# Altium footprint library KelvinVoltageMeasureModule.PcbLib: 35 footprints (part 2 of 3)
Each footprint in its own frame and in the unit in brackets; x right, y up, seen from the top. Pads: shape width x height; smd on the part's side, far side on the other; paste and mask are expansions set on the pad; w line width, h text height; cw(c..) or ccw(c..) is an arc to the next point about the centre after c.
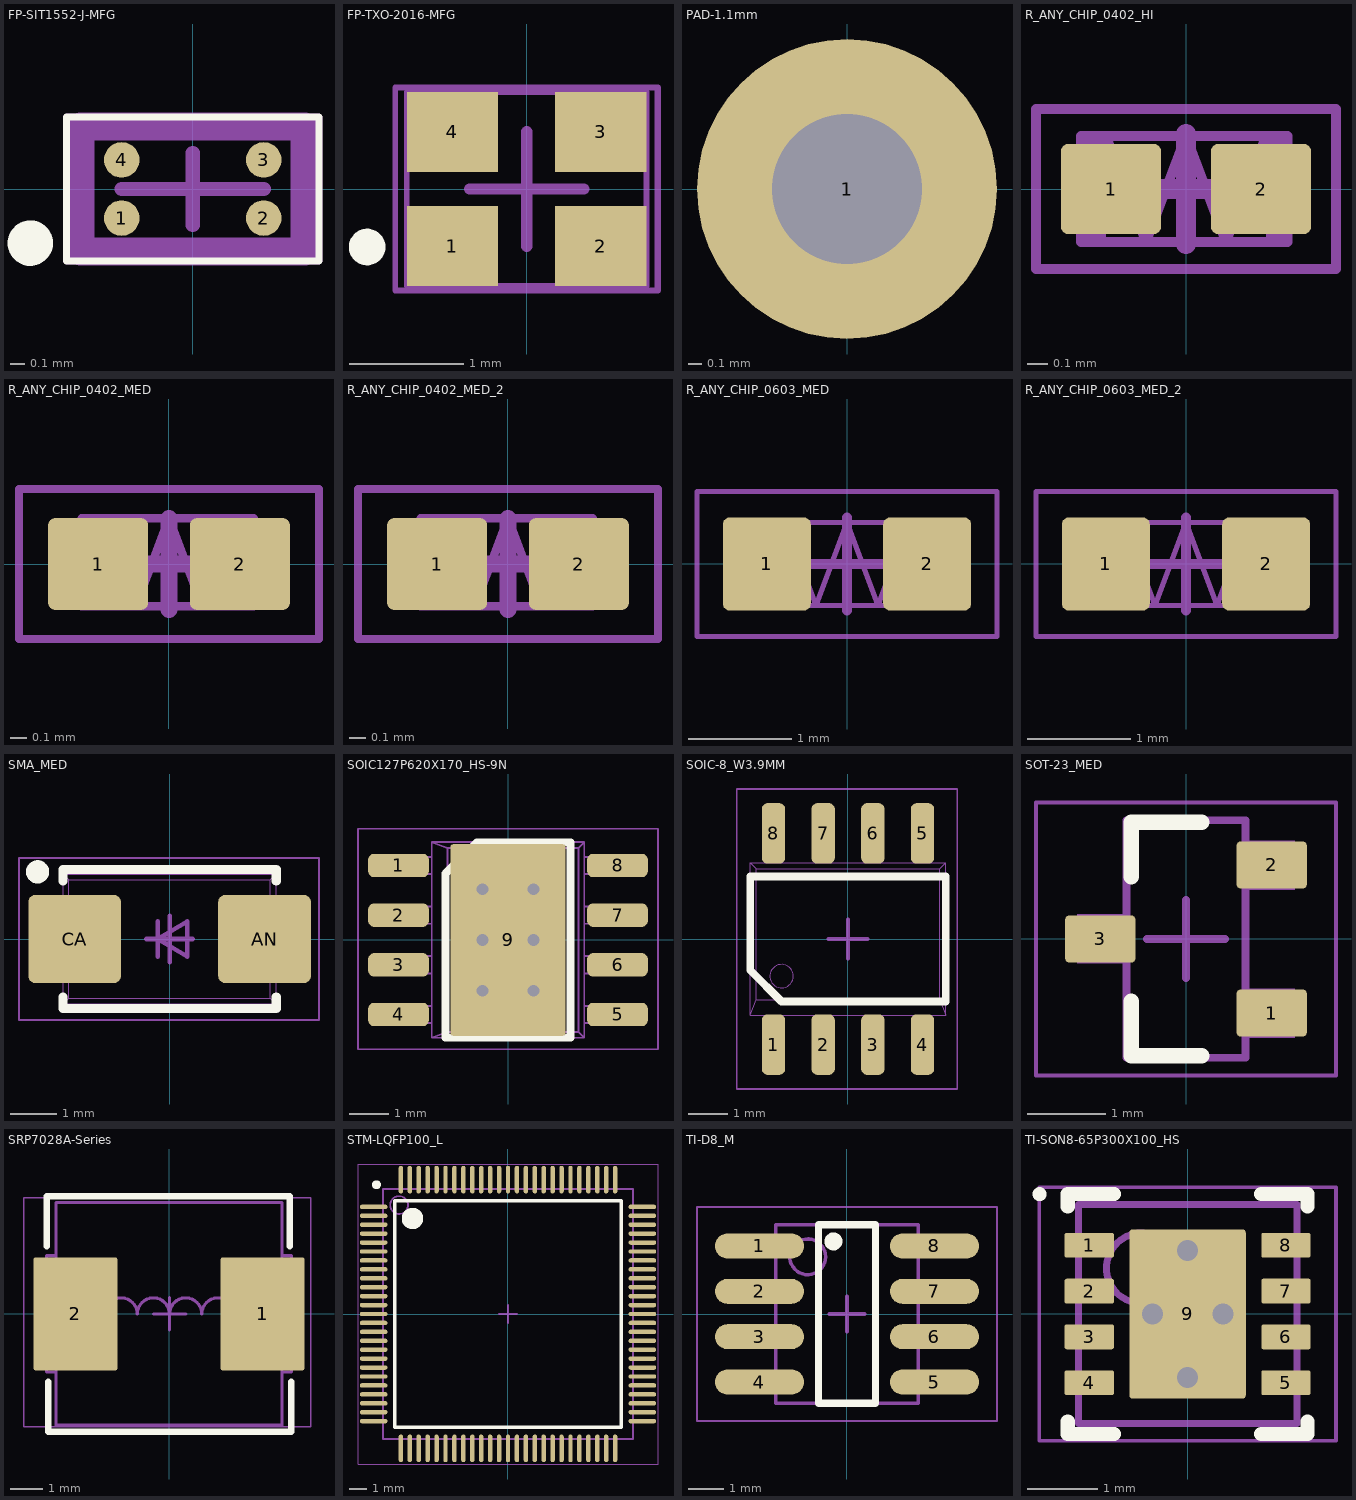
[diagram p1: the footprints below, top view; thin cyan lines are the x and y axes]

## FP-SIT1552-J-MFG [mm]
pads (4):
  round 0.25 smd paste+0 mask-1000: 1(-0.5,-0.205) 2(0.5,-0.205) 3(0.5,0.205) 4(-0.5,0.205)
Top Overlay:
  circle w0.16: c-1.143,-0.381 r0.08
  lines w0.05: -0.889,-0.508 0.889,-0.508 0.889,0.508 -0.889,0.508 -0.889,-0.508
Top Solder:
  circle w0.175: c-0.5,-0.205 r0.088
  circle w0.175: c0.5,-0.205 r0.088
  circle w0.175: c-0.5,0.205 r0.088
  circle w0.175: c0.5,0.205 r0.088
Top 3D Body:
  lines w0.2: -0.79,-0.44 0.79,-0.44 0.79,0.44 -0.79,0.44 -0.79,-0.44
Top Courtyard:
  lines w0.05: -0.889,-0.508 -0.889,0.508 0.889,0.508 0.889,-0.508 -0.889,-0.508
Top Assembly:
  lines w0.05: -0.889,-0.508 -0.889,0.508 0.889,0.508 0.889,-0.508 -0.889,-0.508
  text ".Designator" at 0,0.188 h1
Top Component Center:
  lines w0.1: -0.5,0 0.5,0 ; 0,-0.254 0,0.254
3D body "Crys_SiTime_SIT1552AI-JE-DCC-32_768S_eec.STEP": height 0.25, standoff 0, extent -1.29,-0.94 1.29,0.94

## FP-TXO-2016-MFG [mm]
pads (4):
  rect 0.8x0.7 smd paste+0 mask+0: 1(-0.65,-0.5) 2(0.65,-0.5) 3(0.65,0.5) 4(-0.65,0.5)
Top Overlay:
  circle w0.16: c-1.397,-0.508 r0.08
Top 3D Body:
  lines w0.05: -1.05,-0.85 -1.05,0.85 1.05,0.85 1.05,-0.85 -1.05,-0.85
Top Courtyard:
  lines w0.05: -1.15,-0.889 -1.15,0.889 1.15,0.889 1.15,-0.889 -1.15,-0.889
Top Assembly:
  lines w0.05: -1.15,-0.889 -1.15,0.889 1.143,0.889 1.143,-0.889 -1.15,-0.889
  text ".Designator" at 0,0.188 h1
Top Component Center:
  lines w0.1: -0.5,0 0.5,0 ; 0,-0.5 0,0.5
3D body "Crys_ECS_ECS-TXO-2016-33-160-TR_eec.STEP": height 0.25, standoff 0, extent -1.15,-0.889 1.15,1.011

## PAD-1.1mm [mm]
pads (1):
  round 2.2 hole 1.1: 1(0,0)
Top Designator:
  text ".Designator" at -1.6,1.9 h0.5
Top Assembly:
  circle w0.1: c0,0 r0.8
  lines w0.1: -0.8,0 0.8,0 ; 0,-0.8 0,0.8
Top Value:
  text ".Comment" at -1.562,1.3 h0.5

## R_ANY_CHIP_0402_HI [mm]
pads (2):
  rrect15% 0.5x0.45 smd mask+0.05: 1(-0.375,0) 2(0.375,0)
Top Courtyard:
  lines w0.05: -0.75,-0.4 -0.75,0.4 0.75,0.4 0.75,-0.4 -0.75,-0.4
  lines w0.1: -0.275,0 0.275,0 ; 0,-0.275 0,0.275
Top Designator:
  text ".Designator" at -1.9,1.35 h0.5
Top Assembly:
  region: 0.525,0.265 0.4,0.265 0.4,-0.265 0.525,-0.265
  rectangle: -0.525,-0.265 -0.4,0.265
  lines w0.05: -0.4,0.265 -0.2,-0.265 0,0.265 0.2,-0.265 0.4,0.265 ; -0.525,-0.265 0.508,-0.265 0.508,0.265 -0.525,0.265 -0.525,-0.265
Top Value:
  text ".Comment" at -1.9,0.7 h0.5
3D body "RC0402.STEP": height 0.4, standoff 0, extent -0.525,-0.275 0.525,0.275

## R_ANY_CHIP_0402_MED [mm]
pads (2):
  rrect15% 0.6x0.55 smd mask+0.05: 1(-0.425,0) 2(0.425,0)
Top Courtyard:
  lines w0.05: -0.9,-0.45 -0.9,0.45 0.9,0.45 0.9,-0.45 -0.9,-0.45
  lines w0.1: -0.275,0 0.275,0 ; 0,-0.275 0,0.275
Top Designator:
  text ".Designator" at -1.85,1.25 h0.5
Top Assembly:
  region: 0.525,0.275 0.4,0.275 0.4,-0.254 0.525,-0.254
  rectangle: -0.525,-0.254 -0.4,0.275
  lines w0.05: -0.4,0.275 -0.2,-0.254 0,0.275 0.2,-0.254 0.4,0.275 ; -0.525,-0.254 0.508,-0.254 0.508,0.275 -0.525,0.275 -0.525,-0.254
Top Value:
  text ".Comment" at -1.85,0.65 h0.5
3D body "RC0402.STEP": height 0.4, standoff 0, extent -0.525,-0.275 0.525,0.275

## R_ANY_CHIP_0402_MED_2 [mm]
pads (2):
  rrect15% 0.6x0.55 smd mask+0.05: 1(-0.425,0) 2(0.425,0)
Top Courtyard:
  lines w0.05: -0.9,-0.45 -0.9,0.45 0.9,0.45 0.9,-0.45 -0.9,-0.45
  lines w0.1: -0.275,0 0.275,0 ; 0,-0.275 0,0.275
Top Designator:
  text ".Designator" at -1.85,1.25 h0.5
Top Assembly:
  region: 0.525,0.275 0.4,0.275 0.4,-0.254 0.525,-0.254
  rectangle: -0.525,-0.254 -0.4,0.275
  lines w0.05: -0.4,0.275 -0.2,-0.254 0,0.275 0.2,-0.254 0.4,0.275 ; -0.525,-0.254 0.508,-0.254 0.508,0.275 -0.525,0.275 -0.525,-0.254
Top Value:
  text ".Comment" at -1.85,0.65 h0.5
3D body "RC0402.STEP": height 0.4, standoff 0, extent -0.525,-0.275 0.525,0.275

## R_ANY_CHIP_0603_MED [mm]
pads (2):
  rrect15% 0.85x0.9 smd mask+0.05: 1(-0.775,0) 2(0.775,0)
Top Courtyard:
  lines w0.05: -1.45,-0.7 -1.45,0.7 1.45,0.7 1.45,-0.7 -1.45,-0.7
  lines w0.1: -0.45,0 0.45,0 ; 0,-0.45 0,0.45
Top Designator:
  text ".Designator" at -1.8,1.55 h0.5
Top Assembly:
  rectangle: -0.925,-0.4 -0.7,0.4
  region: 0.925,0.4 0.7,0.4 0.7,-0.4 0.925,-0.4
  lines w0.05: -0.6,0.4 -0.3,-0.4 0,0.4 0.3,-0.4 0.6,0.4 ; -0.9,-0.4 -0.9,0.4 0.9,0.4 0.9,-0.4 -0.9,-0.4
Top Value:
  text ".Comment" at -1.8,0.95 h0.5
3D body "RC0603.STEP": height 0.55, standoff 0, extent -0.85,-0.45 0.85,0.45

## R_ANY_CHIP_0603_MED_2 [mm]
pads (2):
  rrect15% 0.85x0.9 smd mask+0.05: 1(-0.775,0) 2(0.775,0)
Top Courtyard:
  lines w0.05: -1.45,-0.7 -1.45,0.7 1.45,0.7 1.45,-0.7 -1.45,-0.7
  lines w0.1: -0.45,0 0.45,0 ; 0,-0.45 0,0.45
Top Designator:
  text ".Designator" at -1.8,1.55 h0.5
Top Assembly:
  rectangle: -0.925,-0.4 -0.7,0.4
  region: 0.925,0.4 0.7,0.4 0.7,-0.4 0.925,-0.4
  lines w0.05: -0.6,0.4 -0.3,-0.4 0,0.4 0.3,-0.4 0.6,0.4 ; -0.9,-0.4 -0.9,0.4 0.9,0.4 0.9,-0.4 -0.9,-0.4
Top Value:
  text ".Comment" at -1.8,0.95 h0.5
3D body "RC0603.STEP": height 0.55, standoff 0, extent -0.85,-0.45 0.85,0.45

## SMA_MED [mm]
pads (2):
  rrect15% 2x1.9 smd mask+0.05: AN(2.05,0) CA(-2.05,0)
Top Overlay:
  circle w0.25: c-2.85,1.45 r0.125
  lines w0.2: -2.3,-1.25 -2.3,-1.5 2.3,-1.5 2.3,-1.25 ; -2.3,1.25 -2.3,1.5 2.3,1.5 2.3,1.25
Top Courtyard:
  lines w0.05: -3.25,-1.75 3.225,-1.75 3.225,1.75 -3.25,1.75 -3.25,-1.75
  lines w0.1: -0.5,0 0.5,0 ; 0,-0.5 0,0.5
Top Designator:
  text ".Designator" at -2,2.6 h0.5
Top Assembly:
  region: -1.75,0.9 -1.75,-0.9 -1.45,-0.9 -1.45,0.9
  lines w0.01: -2.3,-0.75 -2.65,-0.75 -2.65,0.75 -2.3,0.75 ; 2.3,-0.75 2.65,-0.75 2.65,0.75 2.3,0.75 ; -2.3,-1.4 -2.175,-1.275 ; -2.3,-1.4 2.3,-1.4 ; -2.3,-1.4 -2.3,1.4 ; -2.3,1.4 -2.175,1.275 ; -2.3,1.4 2.3,1.4 ; -2.175,-1.275 -2.175,1.275 ; -2.175,-1.275 2.175,-1.275 ; -2.175,1.275 2.175,1.275 ; 2.175,-1.275 2.175,1.275 ; 2.175,-1.275 2.3,-1.4 ; 2.175,1.275 2.3,1.4 ; 2.3,-1.4 2.3,1.4
  lines w0.1: -0.254,-0.381 -0.254,0.381 ; -0.254,0 0.381,-0.381 0.381,0.381 -0.254,0
Top Value:
  text ".Comment" at -2,1.975 h0.5
3D body "SK56A-LTP_MED.step": height 2.44, standoff 0, extent -2.52,-1.46 2.52,1.46

## SOIC127P620X170_HS-9N [mm]
pads (9):
  rrect50% 1.55x0.6 smd mask+0.05: 1(-2.8,1.905) 2(-2.8,0.635) 3(-2.8,-0.635) 4(-2.8,-1.905) 5(2.8,-1.905) 6(2.8,-0.635) 7(2.8,0.635) 8(2.8,1.905)
  rrect5% 2.95x4.9 smd paste-1.9 mask-1.9: 9(0,0)
via -0.65,1.3 diameter 0.6 hole 0.3
via 0.65,1.3 diameter 0.6 hole 0.3
via -0.65,-1.3 diameter 0.6 hole 0.3
via 0.65,-1.3 diameter 0.6 hole 0.3
via -0.65,0 diameter 0.6 hole 0.3
via 0.65,0 diameter 0.6 hole 0.3
Top Overlay:
  lines w0.2: -1.6,-2.5 1.6,-2.5 1.6,2.5 -0.8,2.5 -1.6,1.7 -1.6,-2.5
Top Paste:
  rectangle: -1.2,-1.55 1.2,1.55
Top Solder:
  rectangle: -1.2,-1.55 1.2,1.55
Top Courtyard:
  lines w0.05: -3.835,-2.794 -3.835,2.845 3.835,2.845 3.835,-2.794 -3.835,-2.794
  lines w0.1: -0.5,0 0.5,0 ; 0,-0.5 0,0.5
Top Designator:
  text ".Designator" at -2.177,3.698 h0.5
Top Assembly:
  circle w0.05: c-0.95,1.7 r0.3
  lines w0.05: -2.46,-2.125 -2.46,-1.685 ; -2.46,-0.855 -2.46,-0.415 ; -2.46,0.415 -2.46,0.855 ; -2.46,1.685 -2.46,2.125 ; -1.95,-2.125 -3.05,-2.125 -3.05,-1.685 -1.95,-1.685 ; -1.95,-0.855 -3.05,-0.855 -3.05,-0.415 -1.95,-0.415 ; -1.95,0.415 -3.05,0.415 -3.05,0.855 -1.95,0.855 ; -1.95,1.685 -3.05,1.685 -3.05,2.125 -1.95,2.125 ; 1.95,-2.125 3.05,-2.125 3.05,-1.685 1.95,-1.685 ; 1.95,-0.855 3.05,-0.855 3.05,-0.415 1.95,-0.415 ; 1.95,0.415 3.05,0.415 3.05,0.855 1.95,0.855 ; 1.95,1.685 3.05,1.685 3.05,2.125 1.95,2.125 ; 2.46,-2.125 2.46,-1.685 ; 2.46,-0.855 2.46,-0.415 ; 2.46,0.415 2.46,0.855 ; 2.46,1.685 2.46,2.125 ; -1.95,-2.5 -1.55,-2.35 ; -1.95,-2.5 -1.95,2.5 ; -1.95,-2.5 1.95,-2.5 ; -1.95,2.5 -1.55,2.35 ; -1.95,2.5 1.95,2.5 ; -1.55,-2.35 -1.55,2.35 ; -1.55,-2.35 1.8,-2.35 ; -1.55,2.35 1.8,2.35 ; 1.8,-2.35 1.95,-2.5 ; 1.8,-2.35 1.8,2.35 ; 1.8,2.35 1.95,2.5 ; 1.95,-2.5 1.95,2.5
Top Value:
  text ".Comment" at -2.206,3.075 h0.5
3D body "SOIC127P620X170_HS-9N.step": height 1.7, standoff 0, extent -3.1,-2.5 3.1,2.5

## SOIC-8_W3.9MM [mm]
pads (8):
  rrect50% 0.6x1.55 smd mask+0.05: 1(-1.905,-2.7) 2(-0.635,-2.7) 3(0.635,-2.7) 4(1.905,-2.7) 5(1.905,2.7) 6(0.635,2.7) 7(-0.635,2.7) 8(-1.905,2.7)
Top Overlay:
  lines w0.2: -2.5,-0.8 -2.5,1.6 2.5,1.6 2.5,-1.6 -1.7,-1.6 -2.5,-0.8
Top Courtyard:
  lines w0.05: -2.845,-3.835 2.794,-3.835 2.794,3.835 -2.845,3.835 -2.845,-3.835
  lines w0.1: -0.5,0 0.5,0 ; 0,-0.5 0,0.5
Top Designator:
  text ".Designator" at -1.626,4.75 h0.5
Top Assembly:
  circle w0.025: c-1.7,-0.95 r0.3
  lines w0.025: -2.125,-2.46 -1.685,-2.46 ; -2.125,-1.95 -2.125,-3.05 -1.685,-3.05 -1.685,-1.95 ; -2.125,1.95 -2.125,3.05 -1.685,3.05 -1.685,1.95 ; -2.125,2.46 -1.685,2.46 ; -0.855,-2.46 -0.415,-2.46 ; -0.855,-1.95 -0.855,-3.05 -0.415,-3.05 -0.415,-1.95 ; -0.855,1.95 -0.855,3.05 -0.415,3.05 -0.415,1.95 ; -0.855,2.46 -0.415,2.46 ; 0.415,-2.46 0.855,-2.46 ; 0.415,-1.95 0.415,-3.05 0.855,-3.05 0.855,-1.95 ; 0.415,1.95 0.415,3.05 0.855,3.05 0.855,1.95 ; 0.415,2.46 0.855,2.46 ; 1.685,-2.46 2.125,-2.46 ; 1.685,-1.95 1.685,-3.05 2.125,-3.05 2.125,-1.95 ; 1.685,1.95 1.685,3.05 2.125,3.05 2.125,1.95 ; 1.685,2.46 2.125,2.46 ; -2.5,-1.95 2.5,-1.95 ; -2.5,-1.95 -2.5,1.95 ; -2.5,-1.95 -2.35,-1.55 ; -2.5,1.95 2.5,1.95 ; -2.5,1.95 -2.35,1.8 ; -2.35,-1.55 2.35,-1.55 ; -2.35,-1.55 -2.35,1.8 ; -2.35,1.8 2.35,1.8 ; 2.35,-1.55 2.35,1.8 ; 2.35,-1.55 2.5,-1.95 ; 2.35,1.8 2.5,1.95 ; 2.5,-1.95 2.5,1.95
Top Value:
  text ".Comment" at -1.651,4.064 h0.5
3D body "SOIC-8_127P600X175-8N.step": height 1.75, standoff 0, extent -2.5,-3 2.5,3

## SOT-23_MED [mm]
pads (3):
  rrect15% 0.9x0.6 smd mask+0.05: 1(1.1,-0.95) 2(1.1,0.95) 3(-1.1,0)
Top Overlay:
  lines w0.2: -0.7,-0.8 -0.7,-1.5 0.2,-1.5 ; -0.7,0.8 -0.7,1.5 0.2,1.5
Top Courtyard:
  lines w0.05: -1.925,-1.75 -1.925,1.75 1.925,1.75 1.925,-1.75 -1.925,-1.75
  lines w0.1: -0.5,0 0.5,0 ; 0,-0.5 0,0.5
Top Designator:
  text ".Designator" at -2.1,2.875 h0.5
Top Assembly:
  rectangle: -1.397,-0.315 -0.762,0.32
  region: 1.397,1.265 0.762,1.265 0.762,0.63 1.397,0.63
  region: 1.397,-0.635 0.762,-0.635 0.762,-1.27 1.397,-1.27
  lines w0.1: -0.762,-1.524 0.762,-1.524 0.762,1.524 -0.762,1.524 -0.762,-1.524
Top Value:
  text ".Comment" at -2.075,2.175 h0.5
3D body "SOT-2395P230X110-3N.step": height 1.1, standoff 0, extent -1.25,-1.5 1.25,1.5

## SRP7028A-Series [mm]
pads (2):
  rrect5% 2.6x3.5 smd: 1(2.9,0) 2(-2.9,0)
Top Overlay:
  lines w0.2: -3.787,2.1 -3.787,3.65 3.75,3.65 3.75,2.1 ; -3.742,-2.106 -3.742,-3.656 3.795,-3.656 3.795,-2.106
Top Courtyard:
  lines w0.05: -4.5,-3.5 -4.5,3.6 4.4,3.6 4.4,-3.5 -4.5,-3.5
  lines w0.1: -0.484,-0.001 0.516,-0.001 ; 0.016,-0.501 0.016,0.499
Top Designator:
  text ".Designator" at -1.7,4.5 h0.5
Top Assembly:
  lines w0.1: -3.5,-1.8 -3.8,-1.8 -3.8,1.8 -3.5,1.8 ; -2.984,-0.001 -1.984,-0.001 cw(c-1.484,-0.001) -0.984,-0.001 cw(c-0.484,-0.001) 0.016,-0.001 cw(c0.516,-0.001) 1.016,-0.001 cw(c1.516,-0.001) 2.016,-0.001 3.016,-0.001 ; 3.5,-1.8 3.8,-1.8 3.8,1.8 3.5,1.8 ; -3.5,-3.45 -3.5,3.45 3.5,3.45 3.5,-3.45 -3.5,-3.45
Top Value:
  text ".Comment" at -1.6,3.8 h0.5
3D body: height 1.8, standoff 0, extent 1.95,-1.525 3.8,1.525
3D body: height 1.8, standoff 0, extent -3.8,-1.525 -1.95,1.525
3D body: height 3, standoff 0, extent -3.5,-3.45 3.5,3.45

## STM-LQFP100_L [mm]
pads (100):
  oval 1.55x0.25 smd: 1(-7.525,6) 2(-7.525,5.5) 3(-7.525,5) 4(-7.525,4.5) 5(-7.525,4) 6(-7.525,3.5) 7(-7.525,3) 8(-7.525,2.5) 9(-7.525,2) 10(-7.525,1.5) 11(-7.525,1) 12(-7.525,0.5) 13(-7.525,0) 14(-7.525,-0.5) 15(-7.525,-1) 16(-7.525,-1.5) 17(-7.525,-2) 18(-7.525,-2.5) 19(-7.525,-3) 20(-7.525,-3.5) 21(-7.525,-4) 22(-7.525,-4.5) 23(-7.525,-5) 24(-7.525,-5.5) 25(-7.525,-6) 51(7.525,-6) 52(7.525,-5.5) 53(7.525,-5) 54(7.525,-4.5) 55(7.525,-4) 56(7.525,-3.5) 57(7.525,-3) 58(7.525,-2.5) 59(7.525,-2) 60(7.525,-1.5) 61(7.525,-1) 62(7.525,-0.5) 63(7.525,0) 64(7.525,0.5) 65(7.525,1) 66(7.525,1.5) 67(7.525,2) 68(7.525,2.5) 69(7.525,3) 70(7.525,3.5) 71(7.525,4) 72(7.525,4.5) 73(7.525,5) 74(7.525,5.5) 75(7.525,6)
  oval 0.25x1.55 smd: 26(-6,-7.525) 27(-5.5,-7.525) 28(-5,-7.525) 29(-4.5,-7.525) 30(-4,-7.525) 31(-3.5,-7.525) 32(-3,-7.525) 33(-2.5,-7.525) 34(-2,-7.525) 35(-1.5,-7.525) 36(-1,-7.525) 37(-0.5,-7.525) 38(0,-7.525) 39(0.5,-7.525) 40(1,-7.525) 41(1.5,-7.525) 42(2,-7.525) 43(2.5,-7.525) 44(3,-7.525) 45(3.5,-7.525) 46(4,-7.525) 47(4.5,-7.525) 48(5,-7.525) 49(5.5,-7.525) 50(6,-7.525) 76(6,7.525) 77(5.5,7.525) 78(5,7.525) 79(4.5,7.525) 80(4,7.525) 81(3.5,7.525) 82(3,7.525) 83(2.5,7.525) 84(2,7.525) 85(1.5,7.525) 86(1,7.525) 87(0.5,7.525) 88(0,7.525) 89(-0.5,7.525) 90(-1,7.525) 91(-1.5,7.525) 92(-2,7.525) 93(-2.5,7.525) 94(-3,7.525) 95(-3.5,7.525) 96(-4,7.525) 97(-4.5,7.525) 98(-5,7.525) 99(-5.5,7.525) 100(-6,7.525)
Top Overlay:
  circle w0.25: c-7.366,7.239 r0.125
  circle w0.6: c-5.35,5.35 r0.3
  lines w0.2: -6.35,-6.35 -6.35,6.35 6.35,6.35 6.35,-6.35 -6.35,-6.35
Mechanical 13:
  circle w0.1: c-6.1,6.1 r0.5
  lines w0.1: -7,-7 -7,7 7,7 7,-7 -7,-7
Mechanical 15:
  lines w0.05: -8.4,-8.4 -8.4,8.4 8.4,8.4 8.4,-8.4 -8.4,-8.4
  lines w0.1: -0.5,0 0.5,0 ; 0,-0.5 0,0.5
3D body: height 1.6, standoff 0.05, extent -7,-7 7,7

## TI-D8_M [mm]
pads (8):
  oval 2.5x0.7 smd: 1(-2.45,1.905) 2(-2.45,0.635) 3(-2.45,-0.635) 4(-2.45,-1.905) 5(2.45,-1.905) 6(2.45,-0.635) 7(2.45,0.635) 8(2.45,1.905)
Top Overlay:
  circle w0.25: c-0.381,2.032 r0.125
  lines w0.2: -0.8,-2.5 0.8,-2.5 0.8,2.5 -0.8,2.5 -0.8,-2.5
Mechanical 13:
  circle w0.1: c-1.1,1.6 r0.5
  lines w0.1: -2,-2.5 2,-2.5 2,2.5 -2,2.5 -2,-2.5
Mechanical 15:
  lines w0.05: -4.2,-3 4.2,-3 4.2,3 -4.2,3 -4.2,-3
  lines w0.1: -0.5,0 0.5,0 ; 0,-0.5 0,0.5
3D body: height 1.75, standoff 0.1, extent -2,-2.5 2,2.5

## TI-SON8-65P300X100_HS [mm]
pads (9):
  rrect15% 0.7x0.35 smd mask+0.05: 1(-1.395,0.975) 2(-1.395,0.325) 3(-1.395,-0.325) 4(-1.395,-0.975) 5(1.395,-0.975) 6(1.395,-0.325) 7(1.395,0.325) 8(1.395,0.975)
  rrect5% 1.65x2.4 smd paste-1.2 mask+0.05: 9(0,0)
via 0.5,0 diameter 0.6 hole 0.3
via 0,0.9 diameter 0.6 hole 0.3
via 0,-0.9 diameter 0.6 hole 0.3
via -0.5,0 diameter 0.6 hole 0.3
Top Overlay:
  circle w0.1: c-2.1,1.7 r0.05
  lines w0.2: -1.7,-1.525 -1.7,-1.7 -1.045,-1.7 ; -1.7,1.525 -1.7,1.7 -1.045,1.7 ; 1.045,-1.7 1.7,-1.7 1.7,-1.525 ; 1.045,1.7 1.7,1.7 1.7,1.525
Top Paste:
  rectangle: -0.735,-1.16 0.735,-0.1
  rectangle: -0.735,0.1 0.735,1.16
Top Courtyard:
  lines w0.05: -2.105,-1.8 2.105,-1.8 2.105,1.8 -2.105,1.8 -2.105,-1.8
  lines w0.1: -0.5,0 0.5,0 ; 0,-0.5 0,0.5
Top Designator:
  text ".Designator" at -1.916,2.684 h0.5
Top Assembly:
  circle w0.1: c-0.65,0.65 r0.5
  lines w0.1: -1.55,-1.55 1.55,-1.55 1.55,1.55 -1.55,1.55 -1.55,-1.55
Top Value:
  text ".Comment" at -1.916,2.071 h0.5
3D body "TI_SON8-65P300X100_HS-9N.step": height 1, standoff 0, extent -1.65,-1.55 1.65,1.55